# Altium footprint library TSSOP-28.PcbLib: 1 footprints
Each footprint in its own frame and in the unit in brackets; x right, y up, seen from the top. Pads: shape width x height; smd on the part's side, far side on the other; paste and mask are expansions set on the pad; w line width, h text height; cw(c..) or ccw(c..) is an arc to the next point about the centre after c.
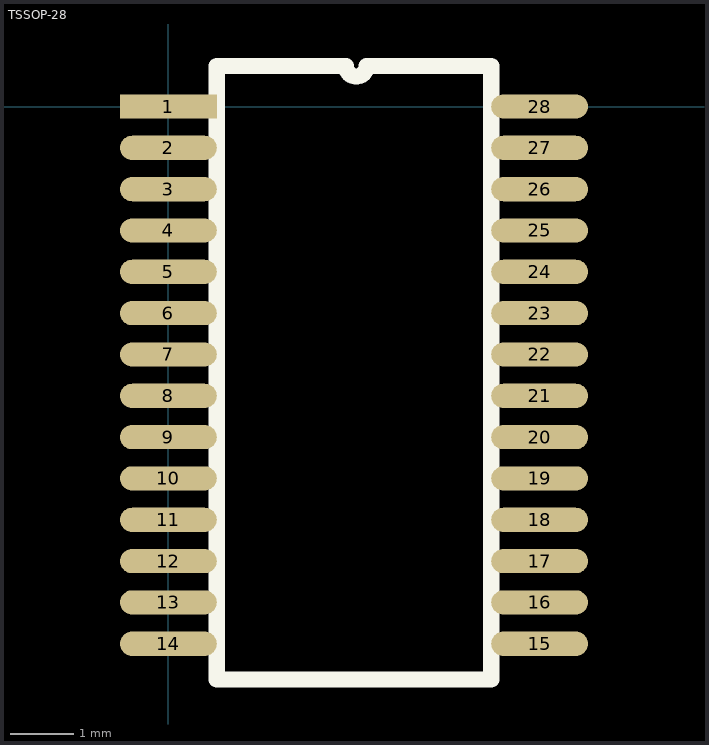
[diagram p0: the footprint, top view; thin cyan lines are the x and y axes]

## TSSOP-28 [mil]
pads (28):
  rect 60x15 smd: 1(0,0)
  oval 60x15 smd: 2(0,-25.6) 3(0,-51.2) 4(0,-76.8) 5(0,-102.4) 6(0,-128) 7(0,-153.6) 8(0,-179.2) 9(0,-204.8) 10(0,-230.4) 11(0,-256) 12(0,-281.6) 13(0,-307.2) 14(0,-332.8) 15(230,-332.8) 16(230,-307.2) 17(230,-281.6) 18(230,-256) 19(230,-230.4) 20(230,-204.8) 21(230,-179.2) 22(230,-153.6) 23(230,-128) 24(230,-102.4) 25(230,-76.8) 26(230,-51.2) 27(230,-25.6) 28(230,0)
Top Overlay:
  lines w10: 122.8,25 cw(c116.4,25) 110,25 30,25 30,-355 200,-355 200,25 125,25
3D body: height 50, standoff 0, extent 25,-360 205,30